# Altium schematic symbol library ICs.SchLib: 16 symbols
Pins are listed as number, name and electrical type; pins without a type are passive.

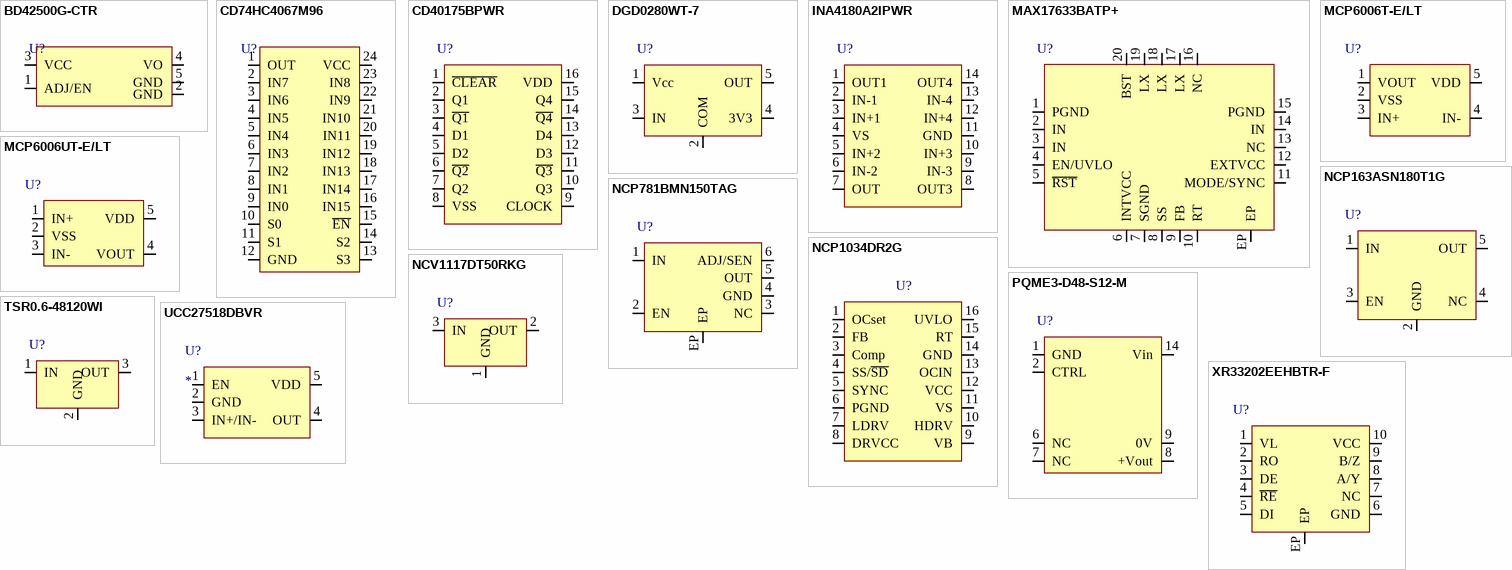
[diagram p0: symbols BD42500G-CTR to XR33202EEHBTR-F]

## BD42500G-CTR
designator U?  (value not drawn)
Linear Regulator Neg/Pos -0.3V to 28V 50mA 5-Pin SSOP Emboss T/R; Manufacturer: Rohm; Manufacturer Part Number: BD42500G-CTR; Supplier 1: RSComponents; RoHS: Yes; Category: Voltage Regulators - Linear; Stock 1: 25; Pricing 1: 25=0.61500, 125=0.57300, 250=0.52000, 1250=0.44600 (GBP); RoHS Compliant: Yes
pins: 1 ADJ/EN, 2 GND, 3 VCC, 4 VO, 5 GND

## CD74HC4067M96
designator U?  (value not drawn)
CD74HC4067 High-speed Cmos 16-CH; Manufacturer: Texas Instruments; Manufacturer Part Number: CD74HC4067M96; Number of Channels: 1; Number of Inputs: 16; Max Supply Voltage: 6V; Min Supply Voltage: 2V; Bandwidth: 89MHz; Propagation Delay: 75ns; On-State Resistance: 180R; Turn-On Delay Time: 300ns; Turn-Off Delay Time: 290ns; Logic Function: Multiplexer,Demultiplexer; Operating Supply Current: 8uA; Supply Type: Single; Low Level Output Current: 25mA; Supplier 1: Digi-Key; RoHS: Yes; Category: Decoders and Multiplexers; Stock 1: 3958; Pricing 1: 1=0.92000, 10=0.82600, 25=0.78360, 100=0.64360, 250=0.60164, 500=0.53170, 1000=0.46200 (USD); Mount: Surface Mount; Case/Package: SOIC; Number of Pins: 24; Weight: 0.028572oz; Contact Plating: Tin,Matte; Min Operating Temperature: -55°C; Max Operating Temperature: 125°C; Number of Outputs: 1; Packaging: Cut Tape; Package Quantity: 2000; Nominal Supply Current: 8uA; Number of Bits: 16; High Level Output Current: 25mA; Series: CD74HC4067; Number of Circuits: 1; Max Supply Current: 8uA; Length: 15.4mm; Width: 7.52mm; Height: 2.35mm; Radiation Hardening: No; Lead Free: Lead Free; RoHS Compliant: Yes; REACH SVHC: No SVHC; ComponentLink1URL: https://datasheet.ciiva.com/15127/getdatasheetpartid-322813-15127761.pdf?src-supplier=Verical; ComponentLink1Description: https://datasheet.ciiva.com/15127/getdatasheetpartid-322813-15127761.pdf?src-supplier=Verical; ComponentLink2URL: https://datasheet.ciiva.com/23646/1762858-23646678.pdf?src-supplier=Newark; ComponentLink2Description: https://datasheet.ciiva.com/23646/1762858-23646678.pdf?src-supplier=Newark; ComponentLink3URL: https://datasheet.ciiva.com/26024/cd74hc4067-26024360.pdf?src-supplier=Avnet+Europe; ComponentLink3Description: https://datasheet.ciiva.com/26024/cd74hc4067-26024360.pdf?src-supplier=Avnet+Europe; ComponentLink4URL: https://datasheet.ciiva.com/1675/cd74hc4067-1675469.pdf?src-supplier=Digi-Key; ComponentLink4Description: https://datasheet.ciiva.com/1675/cd74hc4067-1675469.pdf?src-supplier=Digi-Key; ComponentLink5URL: https://datasheet.ciiva.com/1675/cd74hc4067-1675470.pdf?src-supplier=Digi-Key; ComponentLink5Description: https://datasheet.ciiva.com/1675/cd74hc4067-1675470.pdf?src-supplier=Digi-Key; ComponentLink6URL: https://datasheet.ciiva.com/1675/cd74hc4067-1675471.pdf?src-supplier=Digi-Key; ComponentLink6Description: https://datasheet.ciiva.com/1675/cd74hc4067-1675471.pdf?src-supplier=Digi-Key
footprint SOIC127P1030X265-24N-SOIC24-TI (SOIC, 24-Leads, Body 15.40x7.50mm, Pitch 1.27mm, IPC Medium Density. Based CD74HC4067M96)
pins: 1 OUT, 2 IN7, 3 IN6, 4 IN5, 5 IN4, 6 IN3, 7 IN2, 8 IN1, 9 IN0, 10 S0, 11 S1, 12 GND, 13 S3, 14 S2, 15 ~{EN}, 16 IN15, 17 IN14, 18 IN13, 19 IN12, 20 IN11, 21 IN10, 22 IN9, 23 IN8, 24 VCC

## CD40175BPWR
designator U?  (value not drawn)
Flip Flop D-Type Bus Interface Pos-Edge 1-Element 16-Pin TSSOP T/R; Manufacturer: Texas Instruments; Manufacturer Part Number: CD40175BPWR; Logic Function: D-Type,Flip-Flop; Number of Elements: 1; Clock Edge Trigger Type: Positive Edge; Max Supply Voltage: 18V; Min Supply Voltage: 3V; Propagation Delay: 500ns; Frequency: 14MHz; Number of Bits per Element: 4; Turn-On Delay Time: 70ns; High Level Output Current: -4.2mA; Low Level Output Current: 4.2mA; Polarity: Non-Inverting; Number of Outputs: 8; Quiescent Current: 20uA; Supplier 1: Mouser; RoHS: Yes; Category: Latches and Flip Flops; Stock 1: 2758; Pricing 1: 1=0.56000, 10=0.48200, 50=0.48200, 100=0.33400, 1000=0.21900, 10000=0.18600 (USD); Mount: Surface Mount; Case/Package: TSSOP; Number of Pins: 16; Weight: 0.002183oz; Contact Plating: Gold; Min Operating Temperature: -55°C; Max Operating Temperature: 125°C; Package Quantity: 2000; Packaging: Tape and Reel; Number of Circuits: 4; Number of Input Lines: 4; Number of Output Lines: 4; Number of Bits: 4; Series: 4000B; Technology: CMOS; Max Frequency: 14MHz; Length: 5mm; Width: 4.4mm; Height: 1.15mm; Radiation Hardening: No; Lead Free: Lead Free; RoHS Compliant: Yes; ComponentLink1URL: https://datasheet.ciiva.com/15091/getdatasheetpartid-303228-15091870.pdf?src-supplier=Verical; ComponentLink1Description: https://datasheet.ciiva.com/15091/getdatasheetpartid-303228-15091870.pdf?src-supplier=Verical; ComponentLink2URL: https://datasheet.ciiva.com/1855/cd40175b-1855236.pdf?src-supplier=Digi-Key; ComponentLink2Description: https://datasheet.ciiva.com/1855/cd40175b-1855236.pdf?src-supplier=Digi-Key; ComponentLink3URL: https://datasheet.ciiva.com/1855/cd40175b-1855237.pdf?src-supplier=Digi-Key; ComponentLink3Description: https://datasheet.ciiva.com/1855/cd40175b-1855237.pdf?src-supplier=Digi-Key; ComponentLink4URL: https://datasheet.ciiva.com/1855/cd40175b-1855238.pdf?src-supplier=Digi-Key; ComponentLink4Description: https://datasheet.ciiva.com/1855/cd40175b-1855238.pdf?src-supplier=Digi-Key
footprint SOP127P600-8N-TSSOP16-TI
pins: 1 ~{CLEAR}, 2 Q1, 3 ~{Q1}, 4 D1, 5 D2, 6 ~{Q2}, 7 Q2, 8 VSS, 9 CLOCK, 10 Q3, 11 ~{Q3}, 12 D3, 13 D4, 14 ~{Q4}, 15 Q4, 16 VDD

## DGD0280WT-7
designator U?  (value not drawn)
Gate Driver High Speed Low Side Single 4.5V to 18V TSOT-25 T/R; Manufacturer: Diodes; Manufacturer Part Number: DGD0280WT-7; Supplier 1: Digi-Key; RoHS: Yes; Stock 1: 4124; Pricing 1: 1=0.94000, 10=0.84400, 25=0.80120, 100=0.65830, 250=0.61532, 500=0.54378, 1000=0.42930 (USD)
footprint SOT23127P600-8N-TSOT25-DiodesInc (Based off DGD0280WT-7)
pins: 1 Vcc, 2 COM, 3 IN, 4 3V3, 5 OUT

## INA4180A2IPWR
designator U?  (value not drawn)
26V, quad channel, 350kHz current sense amplifier 14-TSSOP -40 to 125; Manufacturer: Texas Instruments; Manufacturer Part Number: INA4180A2IPWR; Number of Circuits: 4; Slew Rate: 2V/µs; Gain Bandwidth Product: 210kHz; Input Bias Current: 80uA; Input Offset Voltage (Vos): 100uV; Operating Supply Current: 355uA; Supplier 1: Digi-Key; RoHS: Yes; Category: Amplifiers - Op Amps, Buffer, Instrumentation; Stock 1: 797; Pricing 1: 1=1.12000, 10=1.00400, 25=0.95280, 100=0.78260, 250=0.73156, 500=0.64650, 1000=0.56175 (USD); Mount: Surface Mount; Case/Package: TSSOP; Number of Pins: 14; Min Operating Temperature: -40°C; Max Operating Temperature: 125°C; Packaging: Tape and Reel; RoHS Compliant: Yes; ComponentLink1URL: http://www.ti.com/lit/ds/symlink/ina4180.pdf?src-supplier=Digi-Key; ComponentLink1Description: http://www.ti.com/lit/ds/symlink/ina4180.pdf?src-supplier=Digi-Key
footprint SOP127P600-8N-TSSOP14-TI-PW (INA4180A2IPWR)
pins: 1 OUT1, 2 IN-1, 3 IN+1, 4 VS, 5 IN+2, 6 IN-2, 7 OUT, 8 OUT3, 9 IN-3, 10 IN+3, 11 GND, 12 IN+4, 13 IN-4, 14 OUT4

## MAX17633BATP+
designator U?  (value not drawn)
Wide Input Voltage, 3.5A Internal FET Synchronous Buck Converter Ideal for Industrial Applications; Manufacturer: Maxim; Manufacturer Part Number: MAX17633BATP+; Supplier 1: RSComponents; RoHS: Yes; Category: Voltage Regulators - Switching; Stock 1: 200; Pricing 1: 10=3.17200, 25=3.07000, 100=2.88400, 250=2.63000 (GBP); RoHS Compliant: Yes
footprint QFN50P400X400X80_HS-21N-T2044+4C-MAXIM (QFN, 20-Leads, Body 4.00x4.00mm, Pitch 0.50mm, Thermal Pad 2.90x2.90mm, IPC Medium Density)
pins: 1 PGND, 2 IN, 3 IN, 4 EN/UVLO, 5 ~{RST}, 6 INTVCC, 7 SGND, 8 SS, 9 FB, 10 RT, 11 MODE/SYNC, 12 EXTVCC, 13 NC, 14 IN, 15 PGND, 16 NC, 17 LX, 18 LX, 19 LX, 20 BST, EP

## MCP6006T-E/LT
designator U?  (value not drawn)
Single, 1MHz op-amp, E-temp; Manufacturer: Microchip; Manufacturer Part Number: MCP6006T-E/LT; Supplier 1: Mouser; RoHS: No; Stock 1: 14235; Pricing 1: 1=0,31000, 10=0,30800, 25=0,24400, 50=0,24400, 100=0,22500, 1000=0,22500, 3000=0,22400, 10000=0,22400 (USD)
footprint SOT23127P600-8N-SC70-5-Microchip (MCP6006UT-E/LT)
pins: 1 VOUT, 2 VSS, 3 IN+, 4 IN-, 5 VDD

## MCP6006UT-E/LT
designator U?  (value not drawn)
Single, 1MHz op-amp, E temp; Manufacturer: Microchip; Manufacturer Part Number: MCP6006UT-E/LT; Supplier 1: RSComponents; RoHS: No; Stock 1: 150; Pricing 1: 100=0.15800, 250=0.15500, 500=0.15200, 1000=0.14900 (GBP)
footprint SOT23127P600-8N-SC70-5-Microchip (MCP6006UT-E/LT)
pins: 1 IN+, 2 VSS, 3 IN-, 4 VOUT, 5 VDD

## NCP163ASN180T1G
designator U?  (value not drawn)
LDO Regulator, 250 mA, Ultra-High PSRR, Ultra-Low Noise 1.8 V, Active Discharge, TSOP5; Manufacturer: ON Semiconductor; Manufacturer Part Number: NCP163ASN180T1G; Supplier 1: RSComponents; RoHS: Yes; Category: Voltage Regulators - Linear; Stock 1: 775; Pricing 1: 3000=0.16600, 9000=0.16400, 24000=0.16200 (GBP); RoHS Compliant: Yes
footprint SOT23127P600-8N-SOT23-5-ONSEMI (Based off NCP163ASN180T1G)
pins: 1 IN, 2 GND, 3 EN, 4 NC, 5 OUT

## NCP781BMN150TAG
designator U?  (value not drawn)
Linear Voltage Regulator, 100 mA, 150 V, High PSRR; Manufacturer: ON Semiconductor; Manufacturer Part Number: NCP781BMN150TAG; Output Type: Fixed; Output Configuration: Positive; Number of Regulators: 1; Max Input Voltage: 150V; Min Output Voltage: 15V; Dropout Voltage: 9.5V; Output Current: 100mA; Quiescent Current: 55uA; Max Supply Current: 400uA; Power Supply Rejection Ratio (PSRR): 56dB; Supplier 1: Mouser; RoHS: Yes; Category: Voltage Regulators - Linear; Stock 1: 18466; Pricing 1: 1=1.25000, 10=1.13000, 50=1.07000, 100=0.87800, 1000=0.57300, 10000=0.55700 (USD); Mount: Surface Mount; Case/Package: DFN; Min Operating Temperature: -40°C; Max Operating Temperature: 125°C; Packaging: Tape and Reel; RoHS Compliant: Yes; ComponentLink1URL: https://www.onsemi.com/pub/Collateral/NCP781-D.PDF?src-supplier=Digi-Key; ComponentLink1Description: https://www.onsemi.com/pub/Collateral/NCP781-D.PDF?src-supplier=Digi-Key
footprint DFN65P330X90-4N-DFN6-ONSEMI (DFN, 4-Leads, Body 3.30x3.30mm, Pitch 0.65mm, IPC Medium Density)
pins: 1 IN, 2 EN, 3 NC, 4 GND, 5 OUT, 6 ADJ/SEN, EP

## NCP1034DR2G
designator U?  (value not drawn)
NCP Series 3 mA 500 kHz Surface Mount Synchronous PWM Buck Controller - SOIC-16; Manufacturer: ON Semiconductor; Manufacturer Part Number: NCP1034DR2G; Number of Outputs: 1; Output Current: 1A; Frequency: 500kHz; Duty Cycle: 80%; Switching Frequency: 550kHz; Max Supply Current: 3mA; Min Supply Voltage: 10V; Max Supply Voltage: 18V; Supplier 1: RSComponents; RoHS: Yes; Category: Voltage Regulators - Switching; Stock 1: 1; Pricing 1: 2500=1.79700 (USD); Mount: Surface Mount; Case/Package: SOIC; Number of Pins: 16; Contact Plating: Tin,Matte; Min Operating Temperature: -40°C; Max Operating Temperature: 125°C; Packaging: Tape and Reel; Package Quantity: 1; Max Frequency: 500kHz; Max Duty Cycle: 80%; Series: -; Radiation Hardening: No; REACH SVHC: No SVHC; Lead Free: Lead Free; Halogen Free: Halogen Free; RoHS Compliant: Yes; ComponentLink1URL: https://datasheet.ciiva.com/3218/ncp1034-d-3218564.pdf?src-supplier=Avnet; ComponentLink1Description: https://datasheet.ciiva.com/3218/ncp1034-d-3218564.pdf?src-supplier=Avnet; ComponentLink2URL: https://datasheet.ciiva.com/4878/ncp1034-d-81283-4878043.pdf?src-supplier=Mouser; ComponentLink2Description: https://datasheet.ciiva.com/4878/ncp1034-d-81283-4878043.pdf?src-supplier=Mouser; ComponentLink3URL: https://datasheet.ciiva.com/26107/ncp1034-d-26107661.pdf?src-supplier=Avnet+Europe; ComponentLink3Description: https://datasheet.ciiva.com/26107/ncp1034-d-26107661.pdf?src-supplier=Avnet+Europe; ComponentLink4URL: https://datasheet.ciiva.com/26891/ncp1034dr2g-26891078.pdf?src-supplier=IIIC; ComponentLink4Description: https://datasheet.ciiva.com/26891/ncp1034dr2g-26891078.pdf?src-supplier=IIIC; ComponentLink5URL: https://datasheet.ciiva.com/8306/ncp1034-d-8306071.pdf?src-supplier=Avnet; ComponentLink5Description: https://datasheet.ciiva.com/8306/ncp1034-d-8306071.pdf?src-supplier=Avnet; ComponentLink6URL: https://datasheet.ciiva.com/2015/ncp1034-d-2015576.pdf?src-supplier=Digi-Key; ComponentLink6Description: https://datasheet.ciiva.com/2015/ncp1034-d-2015576.pdf?src-supplier=Digi-Key; ComponentLink7URL: https://datasheet.ciiva.com/2015/ncp1034-d-2015577.pdf?src-supplier=Digi-Key; ComponentLink7Description: https://datasheet.ciiva.com/2015/ncp1034-d-2015577.pdf?src-supplier=Digi-Key; ComponentLink8URL: https://datasheet.ciiva.com/2015/ncp1034-d-2015578.pdf?src-supplier=Digi-Key; ComponentLink8Description: https://datasheet.ciiva.com/2015/ncp1034-d-2015578.pdf?src-supplier=Digi-Key
footprint SOIC127P600-8N-SOIC16-onsemi
pins: 1 OCset, 2 FB, 3 Comp, 4 SS/~{SD}, 5 SYNC, 6 PGND, 7 LDRV, 8 DRVCC, 9 VB, 10 HDRV, 11 VS, 12 VCC, 13 OCIN, 14 GND, 15 RT, 16 UVLO

## NCV1117DT50RKG
designator U?  (value not drawn)
NCV1117DT50RKG; LDO Voltage Regulator; 2.2A; 5V +/-1%; Maximum of 20 Vin; 3-Pin DPAK; Manufacturer: ON Semiconductor; Max Input Voltage: 20V; Output Current: 1A; Number of Outputs: 1; Dropout Voltage: 1.07V; Min Input Voltage: 6.5V; Input Bias Current: 6mA; Polarity: Positive; Quiescent Current: 10mA; Reference Voltage: 1.25V; Output Voltage Accuracy: 1%; Output Type: Fixed; Supplier 1: Arrow Electronics; Manufacturer Part Number: NCV1117DT50RKG; RoHS: Yes; Category: Voltage Regulators - Linear; Stock 1: 2462; Pricing 1: 1=0.75500, 10=0.66690, 25=0.56210, 100=0.49890, 250=0.32270, 500=0.31960, 1000=0.27950, 3000=0.26420 (USD); Mount: Surface Mount; Case/Package: DPAK; Number of Pins: 3; Contact Plating: Tin,Matte; Min Operating Temperature: -40°C; Max Operating Temperature: 125°C; Package Quantity: 2500; Output Voltage: 5V; Packaging: Tape and Reel; Max Output Current: 2.2A; Number of Regulators: 1; Min Current Limit: 1A; Min Output Voltage: 5V; Accuracy: 1%; Series: Automotive, AEC-Q100 Series; Length: 6.73mm; Width: 6.22mm; Height: 2.38mm; Radiation Hardening: No; Lead Free: Lead Free; RoHS Compliant: Yes; ComponentLink1URL: https://datasheet.ciiva.com/8233/ncp1117-d-8233399.pdf?src-supplier=Avnet; ComponentLink1Description: https://datasheet.ciiva.com/8233/ncp1117-d-8233399.pdf?src-supplier=Avnet; ComponentLink2URL: https://datasheet.ciiva.com/6581/ncp1117-d-6581610.pdf?src-supplier=Digi-Key; ComponentLink2Description: https://datasheet.ciiva.com/6581/ncp1117-d-6581610.pdf?src-supplier=Digi-Key; ComponentLink3URL: https://datasheet.ciiva.com/6581/ncp1117-d-6581611.pdf?src-supplier=Digi-Key; ComponentLink3Description: https://datasheet.ciiva.com/6581/ncp1117-d-6581611.pdf?src-supplier=Digi-Key; ComponentLink4URL: https://datasheet.ciiva.com/16212/ncp1117-d-16212475.pdf?src-supplier=Future+Electronics; ComponentLink4Description: https://datasheet.ciiva.com/16212/ncp1117-d-16212475.pdf?src-supplier=Future+Electronics; ComponentLink5URL: https://datasheet.ciiva.com/6581/ncp1117-d-6581612.pdf?src-supplier=Digi-Key; ComponentLink5Description: https://datasheet.ciiva.com/6581/ncp1117-d-6581612.pdf?src-supplier=Digi-Key
footprint ONSEMI_DPAK_CASE369C; pin to pad 2>TAB
pins: 1 GND, 2 OUT, 3 IN

## PQME3-D48-S12-M
designator U?  (value not drawn)
PQME3-M Series 3 W 18 to 75 Vdc Input 12 V Output SMT DC/DC Converter; Manufacturer: CUI; Manufacturer Part Number: PQME3-D48-S12-M; Number of Outputs: 1; Min Input Voltage: 18V; Max Input Voltage: 75V; Voltage - Output 1: 12V; Max Output Current: 250mA; Max Power Dissipation: 3W; Isolation Voltage: 1.5kV; Efficiency: 82%; Supplier 1: Mouser; RoHS: Yes; Category: Voltage Regulators - Switching; Stock 1: 40; Pricing 1: 1=12.70000, 10=12.60000, 26=12.40000, 50=12.40000, 52=12.02000, 100=12.02000, 104=10.85000, 260=10.66000, 520=10.47000, 1000=10.47000, 1014=9.89000, 2522=9.69000, 10000=10.47000 (USD); Mount: Surface Mount; Case/Package: SMD/SMT; Min Operating Temperature: -40°C; Max Operating Temperature: 85°C; Packaging: Rail/Tube; RoHS Compliant: No; ComponentLink1URL: https://www.cui.com/product/resource/digikeypdf/pqme3-m.pdf?src-supplier=Digi-Key; ComponentLink1Description: https://www.cui.com/product/resource/digikeypdf/pqme3-m.pdf?src-supplier=Digi-Key
footprint CONV_PQME3-D48-S12-M
pins: 1 GND, 2 CTRL, 6 NC, 7 NC, 8 +Vout, 9 0V, 14 Vin

## TSR0.6-48120WI
designator U?  (value not drawn)
DC-DC Converter; POL; Industrial; Encapsulated; 0.6A; 12V Out; 17-72V In; Manufacturer: Traco Power; Manufacturer Part Number: TSR0.6-48120WI; Supplier 1: Mouser; RoHS: Yes; Category: Board Mount Modules; Stock 1: 86; Pricing 1: 1=11.60000, 10=11.34000, 20=11.16000, 50=10.81000, 100=9.77000, 200=9.59000, 500=9.42000, 1000=9.28000, 2000=9.07000, 10000=9.42000 (USD)
footprint TSR0.6-48120WI
pins: 1 IN, 2 GND, 3 OUT

## UCC27518DBVR
designator U?
Automotive 4-A/4-A single-channel gate driver with 5-V UVLO, enable 5-SOT-23 -40 to 140; Manufacturer: Texas Instruments; Manufacturer Part Number: UCC27518DBVR; Rise Time: 9ns; Propagation Delay: 25ns; Max Supply Voltage: 18V; Min Supply Voltage: 4.5V; Number of Outputs: 1; Output Current: 4A; Fall Time: 7ns; Supplier 1: Digi-Key; RoHS: Yes; Category: Gate Drivers; Stock 1: 1980; Pricing 1: 1=0.89000, 10=0.79400, 25=0.75400, 100=0.61930, 250=0.57888, 500=0.51156, 1000=0.44450 (USD); Mount: Surface Mount; Case/Package: SOT-23-5; Number of Pins: 5; Min Operating Temperature: -40°C; Max Operating Temperature: 140°C; Packaging: Tape and Reel; Package Quantity: 3000; Max Output Current: 4A; Number of Drivers: 1; Turn-On Delay Time: 25ns; Number of Channels: 1; Series: -; Lead Free: Lead Free; RoHS Compliant: Yes; ComponentLink1URL: https://datasheet.ciiva.com/6613/ucc27518-6613253.pdf?src-supplier=Digi-Key; ComponentLink1Description: https://datasheet.ciiva.com/6613/ucc27518-6613253.pdf?src-supplier=Digi-Key; ComponentLink2URL: https://datasheet.ciiva.com/14266/ucc27518-14266751.pdf?src-supplier=Avnet; ComponentLink2Description: https://datasheet.ciiva.com/14266/ucc27518-14266751.pdf?src-supplier=Avnet
footprint SOT23127P600-8N-SOT23-5-TI (Based off UCC27518DBVR)
pins: 1 EN, 2 GND, 3 IN+/IN-, 4 OUT, 5 VDD

## XR33202EEHBTR-F
designator U?  (value not drawn)
RS-485 20Mbps Half-Duplex Transceiver, 3.0 to 5.5V, 15kV ESD, VL pin; Manufacturer: MaxLinear; Manufacturer Part Number: XR33202EEHBTR-F; Supplier 1: Digi-Key; RoHS: Yes; Category: Interface ICs; Stock 1: 1711; Pricing 1: 1=3.58000, 10=3.21700, 25=3.04080, 100=2.63540, 250=2.50028, 500=2.24348, 1000=1.91250 (USD); RoHS Compliant: Yes
footprint SON50P300X80_HS-11N-DFN10-MAXIINEAR (SON, 10-Leads, Body 3.00x3.00mm, Pitch 0.50mm, Thermal Pad 2.30x1.58mm, IPC Medium Density)
pins: 1 VL, 2 RO, 3 DE, 4 ~{RE}, 5 DI, 6 GND, 7 NC, 8 A/Y, 9 B/Z, 10 VCC, EP